# EAGLE library part CD4511BPW (library brett-custom)
CMOS BCD to 7 segment Latch Decoder Drivers
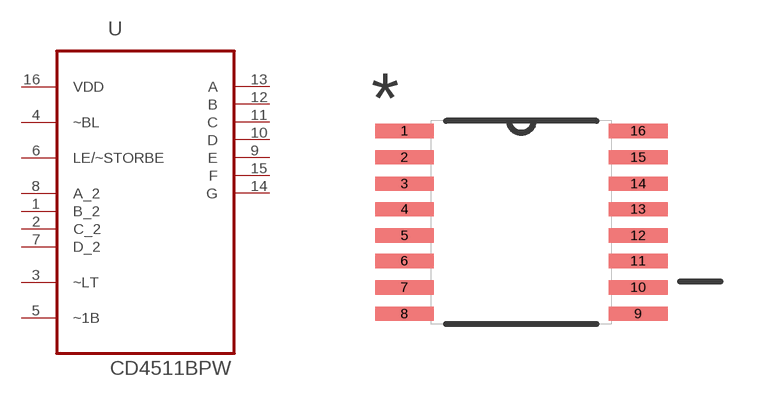
[diagram p4: symbol with the pads of SOP65P640X120-16N; footprint SOP65P640X120-16N]

Designator prefix U

## CD4511BPW (MPN: CD4511BPW; OC_FARNELL: 1752812; OC_NEWARK: 50R5110; PACKAGE: TSSOP-16; SUPPLIER: Texas Instruments)  [SOP65P640X120-16N]
1  B_2  in
2  C_2  in
3  ~LT  in
4  ~BL  in
5  ~1B  in
6  LE/~STORBE  in
7  D_2  in
8  A_2  in
9  E  out
10  D  out
11  C  out
12  B  out
13  A  out
14  G  out
15  F  out
16  VDD  pwr

## Footprint SOP65P640X120-16N (pad centres in mm)
smd 1.473 x 0.356: 1 -2.921,2.286; 2 -2.921,1.626; 3 -2.921,0.965; 4 -2.921,0.33; 5 -2.921,-0.33; 6 -2.921,-0.965; 7 -2.921,-1.626; 8 -2.921,-2.286; 9 2.921,-2.286; 10 2.921,-1.626; 11 2.921,-0.965; 12 2.921,-0.33; 13 2.921,0.33; 14 2.921,0.965; 15 2.921,1.626; 16 2.921,2.286